# Altium footprint library AC DC Power Modules.PcbLib: 1 footprints
Each footprint in its own frame and in the unit in brackets; x right, y up, seen from the top. Pads: shape width x height; smd on the part's side, far side on the other; paste and mask are expansions set on the pad; w line width, h text height; cw(c..) or ccw(c..) is an arc to the next point about the centre after c.
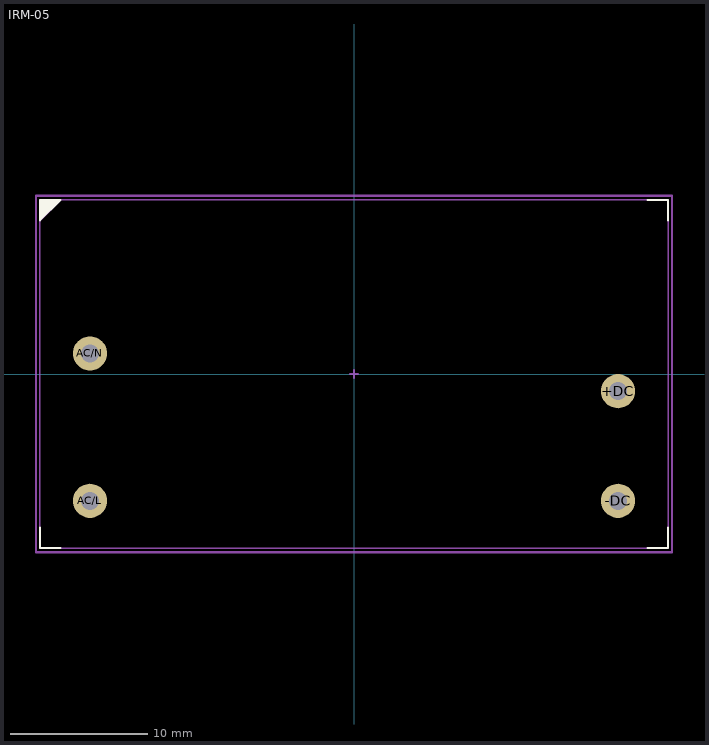
[diagram p0: the footprint, top view; thin cyan lines are the x and y axes]

## IRM-05 [mm]
pads (4):
  round 2.5 hole 1.3: +DC(19.25,-1.25) -DC(19.25,-9.25) AC/L(-19.25,-9.25) AC/N(-19.25,1.5)
Top Overlay:
  region: -21.4,12.7 -22.9,12.7 -22.9,11.2
  lines w0.153: -22.9,-11.2 -22.9,-12.7 -21.4,-12.7 ; 21.4,-12.7 22.9,-12.7 22.9,-11.2 ; 21.4,12.7 22.9,12.7 22.9,11.2 ; -22.9,11.2 -22.9,12.7 -21.4,12.7 -22.9,11.2
Top Assembly:
  region: -22.9,12.7 -22.9,11.1 -21.3,12.7
  lines w0.1: -22.9,-12.7 22.9,-12.7 22.9,12.7 -22.9,12.7 -22.9,-12.7
  text "'.Designator'" at -4.532,-0.333 h0.8
Top Courtyard (Mech6):
  lines w0.153: -0.3,0 0.3,0 ; 0,-0.3 0,0.3 ; -23.2,-13 -23.2,13 23.2,13 23.2,-13 -23.2,-13
3D body "IRM-05-5--3DModel-STEP-56544.STEP": height 21.6, standoff -4.4, extent -22.85,-12.7 22.85,12.7